# Altium footprint library PCB - CONNECTOR - MOLEX - MOLEX 0039293046.PcbLib: 1 footprints
Each footprint in its own frame and in the unit in brackets; x right, y up, seen from the top. Pads: shape width x height; smd on the part's side, far side on the other; paste and mask are expansions set on the pad; w line width, h text height; cw(c..) or ccw(c..) is an arc to the next point about the centre after c.
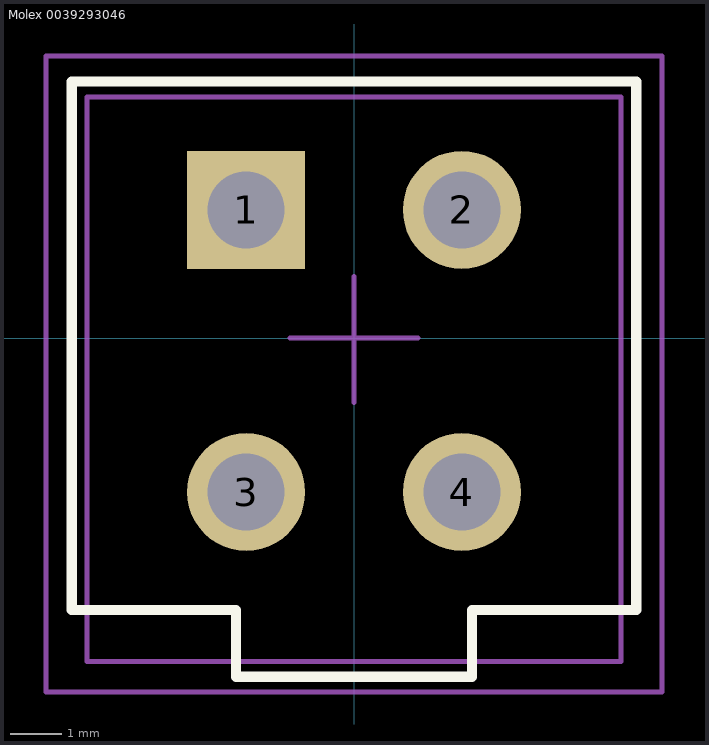
[diagram p0: the footprint, top view; thin cyan lines are the x and y axes]

## Molex 0039293046 [mm] "4 Position Header"
height 12.8
pads (4):
  rect 2.3x2.3 hole 1.5: 1(-2.1,2.5)
  round 2.3 hole 1.5: 2(2.1,2.5) 3(-2.1,-3) 4(2.1,-3)
Top Overlay:
  lines w0.2: -5.5,-5.3 -2.3,-5.3 -2.3,-6.6 2.3,-6.6 2.3,-5.3 5.5,-5.3 5.5,5 -5.5,5 -5.5,-5.3
Mechanical 13:
  lines w0.1: -5.2,-6.3 5.2,-6.3 5.2,4.7 -5.2,4.7 -5.2,-6.3
Mechanical 15 (Mech15):
  lines w0.1: -1.25,0 0,0 ; 0,-1.25 0,0 ; 0,1.2 0,0 ; 1.25,0 0,0 ; -6,-6.9 -6,5.5 6,5.5 6,-6.9 -6,-6.9
3D body "039293046.stp": height 13, standoff -3.3, extent -5.2,-6.3 5.2,4.7